# Altium footprint library SnapEDApcb.PcbLib: 1 footprints
Each footprint in its own frame and in the unit in brackets; x right, y up, seen from the top. Pads: shape width x height; smd on the part's side, far side on the other; paste and mask are expansions set on the pad; w line width, h text height; cw(c..) or ccw(c..) is an arc to the next point about the centre after c.
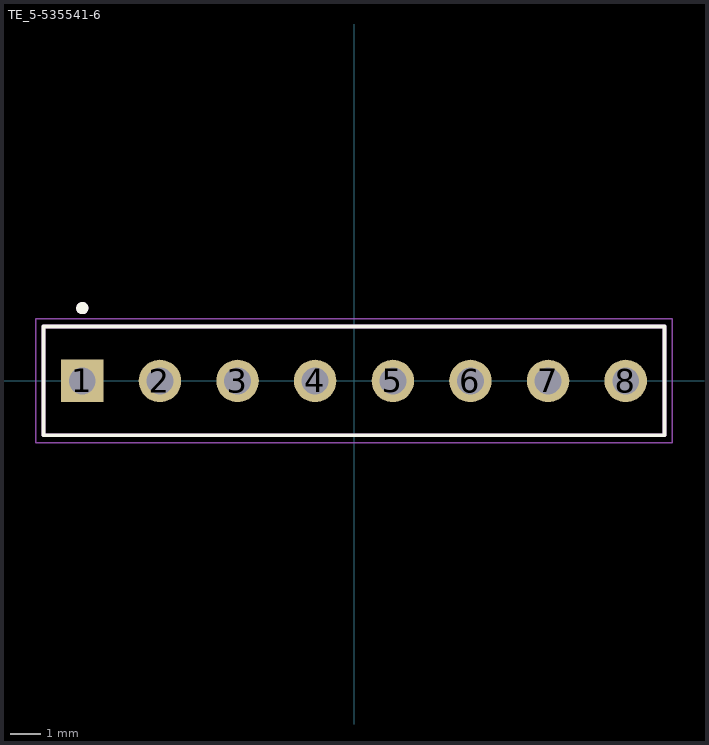
[diagram p0: the footprint, top view; thin cyan lines are the x and y axes]

## TE_5-535541-6 [mm]
pads (8):
  rect 1.388x1.388 hole 0.88: 1(-8.89,0)
  round 1.388 hole 0.88: 2(-6.35,0) 3(-3.81,0) 4(-1.27,0) 5(1.27,0) 6(3.81,0) 7(6.35,0) 8(8.89,0)
Top Overlay:
  circle w0.2: c-8.89,2.38 r0.1
  lines w0.127: -10.16,-1.78 -10.16,1.78 10.16,1.78 10.16,-1.78 -10.16,-1.78
Mechanical 13:
  circle w0.2: c-8.89,2.38 r0.1
  lines w0.127: -10.16,-1.78 -10.16,1.78 10.16,1.78 10.16,-1.78 -10.16,-1.78
Mechanical 15:
  lines w0.05: -10.41,-2.03 -10.41,2.03 10.41,2.03 10.41,-2.03 -10.41,-2.03